# Altium integrated library GD_Power_Meter.IntLib: 20 symbols
Pins are listed as number, name and electrical type; pins without a type are passive.

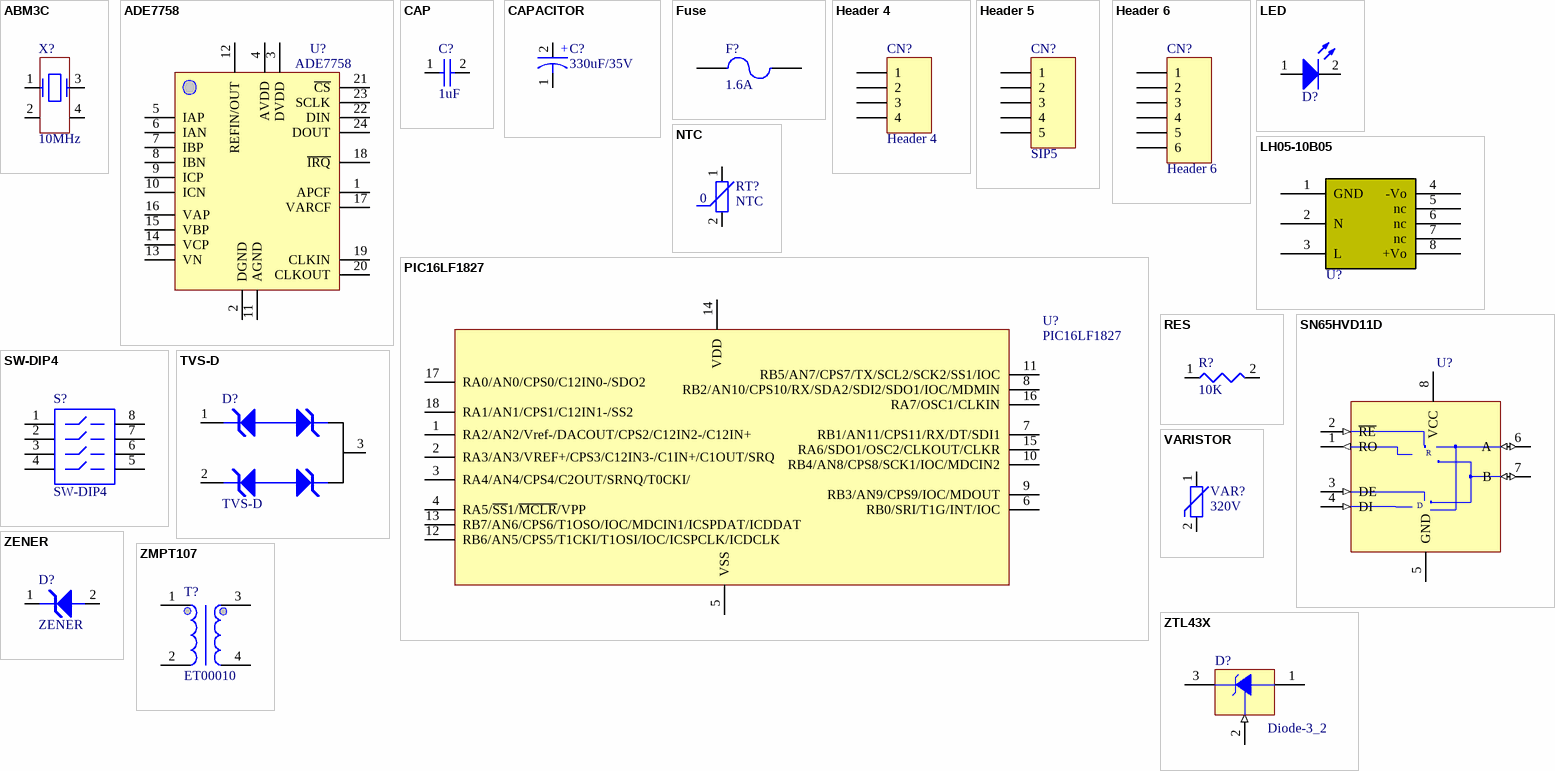
[diagram p0: symbols ABM3C to ZTL43X]

## ABM3C
designator X?  value 10MHz  (hidden comment: ABM3C)
XTAL 10MHz 18PF +/-30PPM,3.2mmWx5mmLx1.3mmH,-40~85,RoHS,SMD; Manufacturer: ABRACON; Manufacturer P/N: ABM3C-10.000MHZ-D4Y-T; P/N: EX00008; ID: 8; HelpURL: \\192.168.1.3\Esh\Department\RD\CAD\Component\Crystal\abracon_abm3c.pdf; Type: *****
footprint XTAL_5X3_2
pins: 1, 2, 3, 4

## ADE7758
designator U?
IC Energy Measurement,Irms,VA,VAR,Vrms,Watt,Output:Pulsed&SPI,SOIC_W-24,ROHS; Manufacturer P/N: ADE7758ARWZRL; Manufacturer: ANALOG DEVICES; P/N: EU00042; ID: 42; Value: ADE7758ARWZRL; HelpURL: \\192.168.1.3\Esh\Department\RD\CAD\Component\Energy Measurement\ADE7758.pdf; Type: *****
footprint SOIC24-W
pins: 1 APCF, 2 DGND, 3 DVDD, 4 AVDD, 5 IAP, 6 IAN, 7 IBP, 8 IBN, 9 ICP, 10 ICN, 11 AGND, 12 REFIN/OUT, 13 VN, 14 VCP, 15 VBP, 16 VAP, 17 VARCF, 18 ~{IRQ}, 19 CLKIN, 20 CLKOUT, 21 ~{CS}, 22 DIN, 23 SCLK, 24 DOUT

## CAP
designator C?  value 1uF  (hidden comment: CAP)
CAP SMD CR X7R 50V 10% 1uF 0805 ROHS; Manufacturer: YAGEO; Manufacturer P/N: CC0805KKX7R9BB105; ID: 2; P/N: EC00002; HelpURL: *
footprint C0805
pins: 1, 2

## CAPACITOR
designator C?  value 330uF/35V  (hidden comment: CAPACITOR)
CAP 35V 20% 330uF 10X16X0.6MM ROHS，7000hours; Manufacturer: NIPPON CHEMI-CON; Manufacturer P/N: EKY350ELL331MJ16S; P/N: EC00095; ID: 95; Type: ****; HelpURL: \\192.168.1.3\Esh\Department\RD\CAD\Component\Capacitor\KY(105).pdf
footprint CA10X16P5
pins: 1, 2
text: +

## Fuse
designator F?  value 1.6A  (hidden comment: Fuse)
FUSE,Ceramic,1.6A,25A@250VAC,8.5x8mm,ROHS; Manufacturer: LITTELFUSE; Manufacturer P/N: 39211600440; P/N: EF00005; ID: 5; Type: ****; HelpURL: \\192.168.1.3\Esh\Department\RD\CAD\Component\Fuse\Ltitelfuse_Fuse_392.pdf
footprint 392XXXX000
pins: 1, 2

## Header 4
designator CN?
Header, 4-Pin; Manufacturer P/N: HT5.08-4 Bend; P/N: EE00005; Manufacturer: *
footprint HT5.08-4P-H
pins: 1, 2, 3, 4

## Header 5
designator CN?, comment SIP5  (no BOM)
CONNECTOR 5PIN,2.54PITCH,SIP-5; Manufacturer: 信荣; Manufacturer P/N: PH2.54*1*5*11.6/3.0; P/N: EJ00017; ID: 17; Value: SIP-5
footprint SIP5
pins: 1, 2, 3, 4, 5

## Header 6
designator CN?
Header, 6-Pin; Manufacturer P/N: HT5.08-6P Bend; P/N: EE00007; Manufacturer: *
footprint HT5.08-6P-H
pins: 1, 2, 3, 4, 5, 6

## LED
designator D?, comment ED00056  (value not drawn)
3.0mm Round Type LED Lamps Yellow/Green; Manufacturer P/N: 1224-10SYGC/S530-E2; Manufacturer: EVERLIGHT; ID: 56; Value: 1224-10SYGC/S530-E2; P/N: ED00056
footprint LED_DIP
pins: 1, 2

## LH05-10B05
designator U?  (value not drawn)
Manufacturer: Mornsun; P/N: EE00001; Manufacturer P/N: LH05-10B05
footprint LH05X
pins: 1 GND, 2 N, 3 L, 4 -Vo, 5 nc, 6 nc, 7 nc, 8 +Vo

## NTC
designator RT?
Manufacturer P/N: 5D2-08LD; Manufacturer: SEMITEC; P/N: EE00003; Value: 5 Ohm  3A
footprint NTC8_5x6P5
pins: 1, 2
text: 0

## PIC16LF1827
designator U?
IC 8-bit UART SPI I2C,SOIC18-W,SMD,ROHS; Manufacturer P/N: PIC16F1827-I/SO; Manufacturer: Microchip; P/N: EU00033; ID: 33; Value: PIC16F1827-I/SO; HelpURL: \\192.168.1.3\Esh\Department\RD\CAD\Component\MCU\PIC16F1827.pdf; Type: *****
footprint SO18
footprint SO18B
pins: 1 RA2/AN2/Vref-/DACOUT/CPS2/C12IN2-/C12IN+, 2 RA3/AN3/VREF+/CPS3/C12IN3-/C1IN+/C1OUT/SRQ, 3 RA4/AN4/CPS4/C2OUT/SRNQ/T0CKI/, 4 RA5/~{SS}1/~{MCLR}/VPP, 5 VSS, 6 RB0/SRI/T1G/INT/IOC, 7 RB1/AN11/CPS11/RX/DT/SDI1, 8 RB2/AN10/CPS10/RX/SDA2/SDI2/SDO1/IOC/MDMIN, 9 RB3/AN9/CPS9/IOC/MDOUT, 10 RB4/AN8/CPS8/SCK1/IOC/MDCIN2, 11 RB5/AN7/CPS7/TX/SCL2/SCK2/SS1/IOC, 12 RB6/AN5/CPS5/T1CKI/T1OSI/IOC/ICSPCLK/ICDCLK, 13 RB7/AN6/CPS6/T1OSO/IOC/MDCIN1/ICSPDAT/ICDDAT, 14 VDD, 15 RA6/SDO1/OSC2/CLKOUT/CLKR, 16 RA7/OSC1/CLKIN, 17 RA0/AN0/CPS0/C12IN0-/SDO2, 18 RA1/AN1/CPS1/C12IN1-/SS2

## RES
designator R?  value 10K  (hidden comment: RES)
RES THICK_FILM SMD 10K ohm 5% 1/10W ROHS 0603; Manufacturer: YAGEO; Manufacturer P/N: RC0603JR-1310KL; P/N: ER00213; ID: 213; HelpURL: \\192.168.1.3\Esh\Department\RD\CAD\Component\Resistor\SMD\YAGEO_PYu-RC1206_51_RoHS_L_4.pdf
footprint R0603
pins: 1, 2

## SN65HVD11D
designator U?  (value not drawn)
IC 5V,RS-485,10Mbps,16KV,TRANSCEIVERS,SOIC-8,ROHS; Manufacturer P/N: SN65HVD08D; Manufacturer: Texas Instruments; P/N: EU00041; ID: 41; Value: SN65HVD08D; HelpURL: \\192.168.1.3\Esh\Department\RD\CAD\Component\RS485\sn65hvd08.pdf; Type: *****
footprint SOIC8
pins: 1 RO (out), 2 ~{RE} (in), 3 DE (in), 4 DI (in), 5 GND (power), 6 A (io), 7 B (io), 8 VCC (power)
text: R; D

## SW-DIP4
designator S?
侧拨 4位; Manufacturer: WE; Manufacturer P/N: 418317270904; P/N: EE00004; Published: 24-Mar-1999; LatestRevisionDate: 17-Jul-2002; LatestRevisionNote: Re-released for DXP Platform.; PackageReference: DIP-8; Publisher: Altium Limited
footprint SW_4P (DIP; 8 Leads; Row Spacing 7.62 mm; Pitch 2.54 mm)
simulation model dpsw4 (Spice Subcircuit)
pins: 1, 2, 3, 4, 5, 6, 7, 8

## TVS-D
designator D?
DIODE TVS 7V 12V 17A 400W SOT-23 SMD ROHS; Manufacturer: BOURNS; ID: 7; Value: CDSOT23-SM712; P/N: ED00007; Type: ****; HelpURL: \\192.168.1.3\Esh\Department\RD\CAD\Component\IO_PROTECTION\BOURNS_CDSOT23-SM712.pdf; Manufacturer P/N: CDSOT23-SM712
footprint SOT23-123
pins: 1, 2, 3

## VARISTOR
designator VAR?  value 320V  (hidden comment: VARISTOR)
MOV 320V 14MM 80J LDFR ROHS; Manufacturer: LITTELFUSE; Manufacturer P/N: V320LA20AP; P/N: ER00200; ID: 200; HelpURL: \\192.168.1.3\Esh\Department\RD\CAD\Component\Resistor\Varistor\Littelfuse_MOV_LA.pdf; Type: ****
footprint VAR16_7X6_6P7_5
pins: 1, 2

## ZENER
designator D?
Manufacturer P/N: SMBJ7.0A; Manufacturer: Bourns; P/N: EE00002; Value: SMBJ7.0A; Type: ****
footprint SMB
pins: 1, 2

## ZMPT107
designator T?, comment ET00010
Voltage transformer,2mA/2mA,THT,ROHS; Manufacturer: ZEMING; Value: ZMPT107; ID: 10; HelpURL: *; P/N: ET00010; Manufacturer P/N: ZMPT107
footprint ZMPT107
pins: 1, 2, 3, 4

## ZTL43X
designator D?, comment Diode-3_2
IC PROGRAMMABLE PRECISION REFERENCES,2.5-20V,0.5%,SMD,ROHS; Manufacturer: DIODES; Manufacturer P/N: ZTL431BFTA; P/N: EU00043; ID: 43; Value: ZTL431BFTA; Type: *****; HelpURL: \\192.168.1.3\Esh\Department\RD\CAD\Component\TL431\ZTL431_432.pdf
footprint SOT23-321
pins: 1 A, 2 R (in), 3 C